# EAGLE library part NUCLEO_F411RE (library stm32_nucleo_shield)
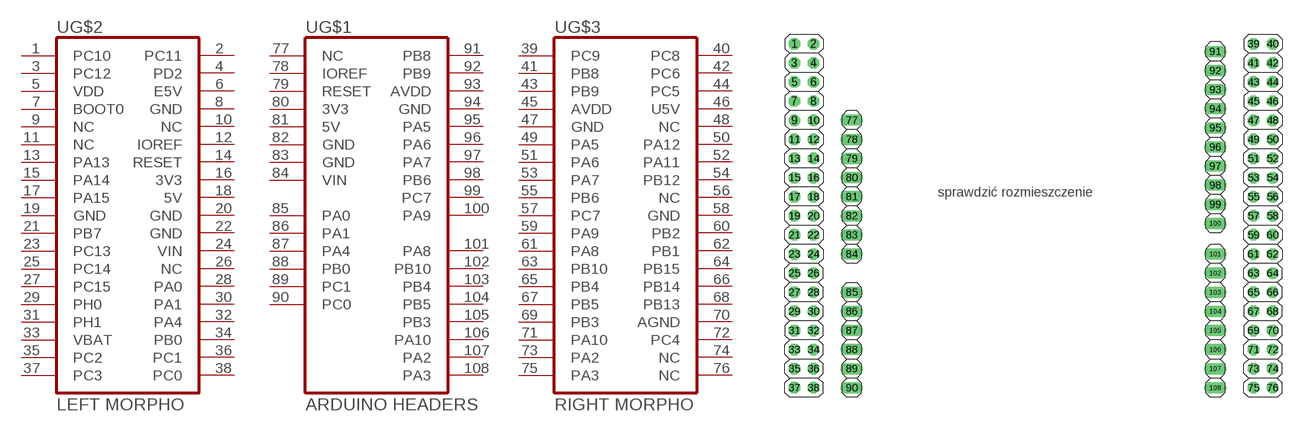
[diagram p0: symbol with the pads of ARDUINO+MORPHO; footprint ARDUINO+MORPHO]

Designator prefix -; gates G$1=F411RE_ARDUINO G$2=F411RE_MORPHO_LEFT G$3=F411RE_MORPHO_RIGHT

## NUCLEO_F411RE  [ARDUINO+MORPHO]
1  G$2:PC10
2  G$2:PC11
3  G$2:PC12
4  G$2:PD2
5  G$2:VDD  pwr
6  G$2:E5V
7  G$2:BOOT0  in
8  G$2:GND  pwr
9  G$2:NC  nc
10  G$2:NC  nc
11  G$2:NC  nc
12  G$2:IOREF
13  G$2:PA13
14  G$2:RESET
15  G$2:PA14
16  G$2:3V3  pwr
17  G$2:PA15
18  G$2:5V  pwr
19  G$2:GND  pwr
20  G$2:GND  pwr
21  G$2:PB7
22  G$2:GND  pwr
23  G$2:PC13
24  G$2:VIN  pwr
25  G$2:PC14
26  G$2:NC  nc
27  G$2:PC15
28  G$2:PA0
29  G$2:PH0
30  G$2:PA1
31  G$2:PH1
32  G$2:PA4
33  G$2:VBAT  pwr
34  G$2:PB0
35  G$2:PC2
36  G$2:PC1
37  G$2:PC3
38  G$2:PC0
39  G$3:PC9
40  G$3:PC8
41  G$3:PB8
42  G$3:PC6
43  G$3:PB9
44  G$3:PC5
45  G$3:AVDD  pwr
46  G$3:U5V  pwr
47  G$3:GND  pwr
48  G$3:NC  nc
49  G$3:PA5
50  G$3:PA12
51  G$3:PA6
52  G$3:PA11
53  G$3:PA7
54  G$3:PB12
55  G$3:PB6
56  G$3:NC  nc
57  G$3:PC7
58  G$3:GND  pwr
59  G$3:PA9
60  G$3:PB2
61  G$3:PA8
62  G$3:PB1
63  G$3:PB10
64  G$3:PB15
65  G$3:PB4
66  G$3:PB14
67  G$3:PB5
68  G$3:PB13
69  G$3:PB3
70  G$3:AGND  pwr
71  G$3:PA10
72  G$3:PC4
73  G$3:PA2
74  G$3:NC  nc
75  G$3:PA3
76  G$3:NC  nc
77  G$1:NC  nc
78  G$1:IOREF  in
79  G$1:RESET  in
80  G$1:3V3  pwr
81  G$1:5V  pwr
82  G$1:GND  pwr
83  G$1:GND  pwr
84  G$1:VIN  pwr
85  G$1:PA0
86  G$1:PA1
87  G$1:PA4
88  G$1:PB0
89  G$1:PC1
90  G$1:PC0
91  G$1:PB8
92  G$1:PB9
93  G$1:AVDD  pwr
94  G$1:GND  pwr
95  G$1:PA5
96  G$1:PA6
97  G$1:PA7
98  G$1:PB6
99  G$1:PC7
100  G$1:PA9
101  G$1:PA8
102  G$1:PB10
103  G$1:PB4
104  G$1:PB5
105  G$1:PB3
106  G$1:PA10
107  G$1:PA2
108  G$1:PA3

## Footprint ARDUINO+MORPHO (pad centres in mm)
drill 1.016 octagon: 1 -31.75,22.86; 2 -29.21,22.86; 3 -31.75,20.32; 4 -29.21,20.32; 5 -31.75,17.78; 6 -29.21,17.78; 7 -31.75,15.24; 8 -29.21,15.24; 9 -31.75,12.7; 10 -29.21,12.7; 11 -31.75,10.16; 12 -29.21,10.16; 13 -31.75,7.62; 14 -29.21,7.62; 15 -31.75,5.08; 16 -29.21,5.08; 17 -31.75,2.54; 18 -29.21,2.54; 19 -31.75,0; 20 -29.21,0; 21 -31.75,-2.54; 22 -29.21,-2.54; 23 -31.75,-5.08; 24 -29.21,-5.08; 25 -31.75,-7.62; 26 -29.21,-7.62; 27 -31.75,-10.16; 28 -29.21,-10.16; 29 -31.75,-12.7; 30 -29.21,-12.7; 31 -31.75,-15.24; 32 -29.21,-15.24; 33 -31.75,-17.78; 34 -29.21,-17.78; 35 -31.75,-20.32; 36 -29.21,-20.32; 37 -31.75,-22.86; 38 -29.21,-22.86; 39 29.21,22.86; 40 31.75,22.86; 41 29.21,20.32; 42 31.75,20.32; 43 29.21,17.78; 44 31.75,17.78; 45 29.21,15.24; 46 31.75,15.24; 47 29.21,12.7; 48 31.75,12.7; 49 29.21,10.16; 50 31.75,10.16; 51 29.21,7.62; 52 31.75,7.62; 53 29.21,5.08; 54 31.75,5.08; 55 29.21,2.54; 56 31.75,2.54; 57 29.21,0; 58 31.75,0; 59 29.21,-2.54; 60 31.75,-2.54; 61 29.21,-5.08; 62 31.75,-5.08; 63 29.21,-7.62; 64 31.75,-7.62; 65 29.21,-10.16; 66 31.75,-10.16; 67 29.21,-12.7; 68 31.75,-12.7; 69 29.21,-15.24; 70 31.75,-15.24; 71 29.21,-17.78; 72 31.75,-17.78; 73 29.21,-20.32; 74 31.75,-20.32; 75 29.21,-22.86; 76 31.75,-22.86
drill 1.016 long: 77 -24.13,12.7; 78 -24.13,10.16; 79 -24.13,7.62; 80 -24.13,5.08; 81 -24.13,2.54; 82 -24.13,0; 83 -24.13,-2.54; 84 -24.13,-5.08; 85 -24.13,-10.16; 86 -24.13,-12.7; 87 -24.13,-15.24; 88 -24.13,-17.78; 89 -24.13,-20.32; 90 -24.13,-22.86; 91 24.13,21.844; 92 24.13,19.304; 93 24.13,16.764; 94 24.13,14.224; 95 24.13,11.684; 96 24.13,9.144; 97 24.13,6.604; 98 24.13,4.064; 99 24.13,1.524; 100 24.13,-1.016; 101 24.13,-5.08; 102 24.13,-7.62; 103 24.13,-10.16; 104 24.13,-12.7; 105 24.13,-15.24; 106 24.13,-17.78; 107 24.13,-20.32; 108 24.13,-22.86